# EAGLE library part ISZ230N10NM6ATMA1 (library ISZ230N10NM6ATMA1)
Power MOSFET, N Channel, 100 V, 31 A, 0.0196 ohm, TSDSON-FL, Surface Mount Source: Datasheet <https://www.infineon.com/dgdl/Infineon-ISZ230N10NM6-DataSheet-v02_00-EN.pdf?fileId=8ac78c8c7bb971ed017bba7c28d202ac>
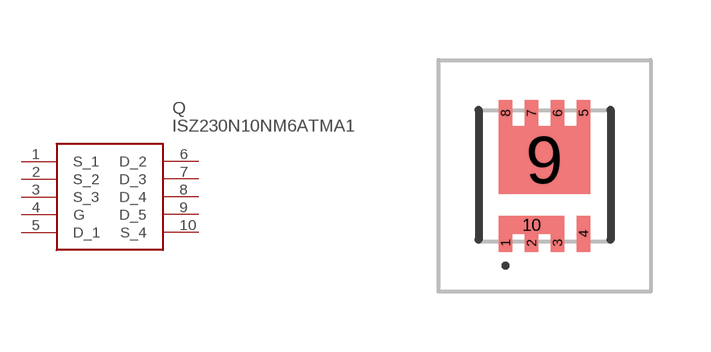
[diagram p0: symbol with the pads of ISZ230N10NM6ATMA1; footprint ISZ230N10NM6ATMA1]

Designator prefix Q

## ISZ230N10NM6ATMA1 (Description: Power MOSFET, N Channel, 100 V, 31 A, 0.0196 ohm, TSDSON-FL, Surface Mount; Height: 1.1mm; Manufacturer_Name: Infineon; Manufacturer_Part_Number: ISZ230N10NM6ATMA1; Mouser_Part_Number: 726-ISZ230N10NM6ATMA; Mouser_Price-Stock: https://www.mouser.co.uk/ProductDetail/Infineon-Technologies/ISZ230N10NM6ATMA1?qs=QNEnbhJQKva40xihFpvF9Q%3D%3D)  [ISZ230N10NM6ATMA1]
1  S_1
2  S_2
3  S_3
4  G
5  D_1
6  D_2
7  D_3
8  D_4
9  D_5
10  S_4

## Footprint ISZ230N10NM6ATMA1 (pad centres in mm)
ISZ230N10NM6ATMA1
smd 0.34 x 0.45: 1 -0.975,-1.675; 2 -0.325,-1.675; 3 0.325,-1.675
smd 0.34 x 0.9: 4 0.975,-1.45
smd 0.34 x 0.65: 5 0.975,1.575; 6 0.325,1.575; 7 -0.325,1.575; 8 -0.975,1.575
smd 2.29 x 1.71: 9 0,0.395
smd 1.64 x 0.45: 10 -0.325,-1.225